# EAGLE library part TPS62125DSGR (library Deegou_IC)
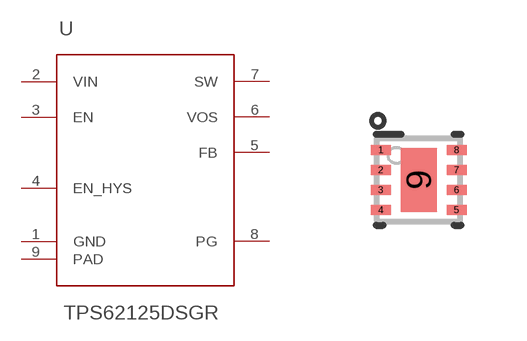
[diagram p43: symbol with the pads of DSG0008A; footprint DSG0008A]

Designator prefix U

## TPS62125DSGR (ALTERNATEPARTNUMBER: TPS62125DSGT; COMPTYPE: IC; MANUFACTURER: Texas Instruments; MOUNTTYPE: SMT; PACKAGEREFERENCE: DSG0008A; PARTNUMBER: TPS62125DSGR; PIN_COUNT: 9; REFDES: RefDes; ROHS: Y; TYPE: TYPE; VALUE: Value)  [DSG0008A]
1  GND  pwr
2  VIN  pwr
3  EN  in
4  EN_HYS  out
5  FB  in
6  VOS  in
7  SW  pwr
8  PG  out
9  PAD  pwr

## Footprint DSG0008A (pad centres in mm)
smd 0.5 x 0.25: 1 -0.95,0.75; 2 -0.95,0.25; 3 -0.95,-0.25; 4 -0.95,-0.75; 5 0.95,-0.75; 6 0.95,-0.25; 7 0.95,0.25; 8 0.95,0.75
smd 0.9 x 1.6: 9 0,0